# EAGLE library part JHD-508 (library custom)
Graphic LCD Module
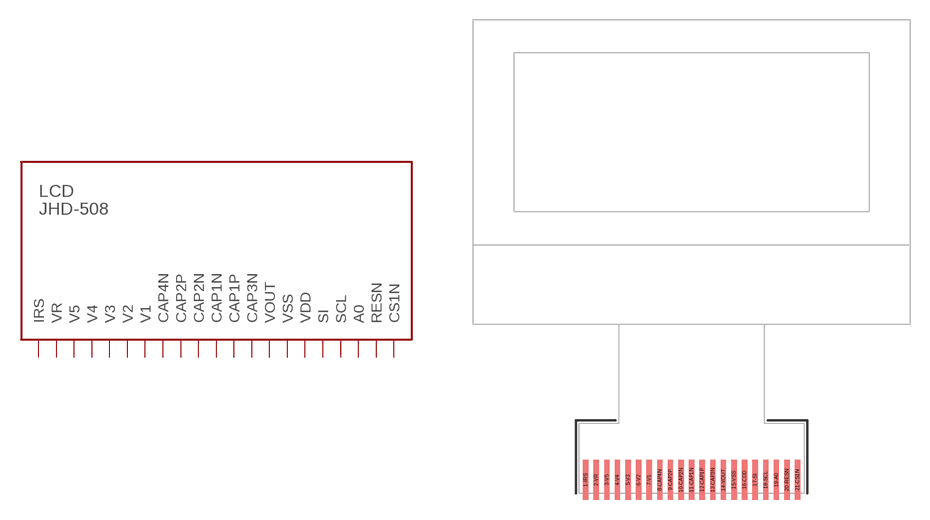
[diagram p78: symbol with the pads of LCD_JHD-508; footprint LCD_JHD-508]

Designator prefix LCD

## JHD-508  [LCD_JHD-508]
1-IRS  IRS
2-VR  VR
3-V5  V5
4-V4  V4
5-V3  V3
6-V2  V2
7-V1  V1
8-CAP4N  CAP4N
9-CAP2P  CAP2P
10-CAP2N  CAP2N
11-CAP1N  CAP1N
12-CAP1P  CAP1P
13-CAP3N  CAP3N
14-VOUT  VOUT
15-VSS  VSS
16-CDD  VDD
17-SI  SI
18-SCL  SCL
19-A0  A0
20-RESN  RESN
21-CS1N  CS1N

## Footprint LCD_JHD-508 (pad centres in mm)
smd 0.4 x 3: 1-IRS -8,0; 2-VR -7.2,0; 3-V5 -6.4,0; 4-V4 -5.6,0; 5-V3 -4.8,0; 6-V2 -4,0; 7-V1 -3.2,0; 8-CAP4N -2.4,0; 9-CAP2P -1.6,0; 10-CAP2N -0.8,0; 11-CAP1N 0,0; 12-CAP1P 0.8,0; 13-CAP3N 1.6,0; 14-VOUT 2.4,0; 15-VSS 3.2,0; 16-CDD 4,0; 17-SI 4.8,0; 18-SCL 5.6,0; 19-A0 6.4,0; 20-RESN 7.2,0; 21-CS1N 8,0